# Altium footprint library Passives.PcbLib: 22 footprints (part 2 of 2)
Each footprint in its own frame and in the unit in brackets; x right, y up, seen from the top. Pads: shape width x height; smd on the part's side, far side on the other; paste and mask are expansions set on the pad; w line width, h text height; cw(c..) or ccw(c..) is an arc to the next point about the centre after c.
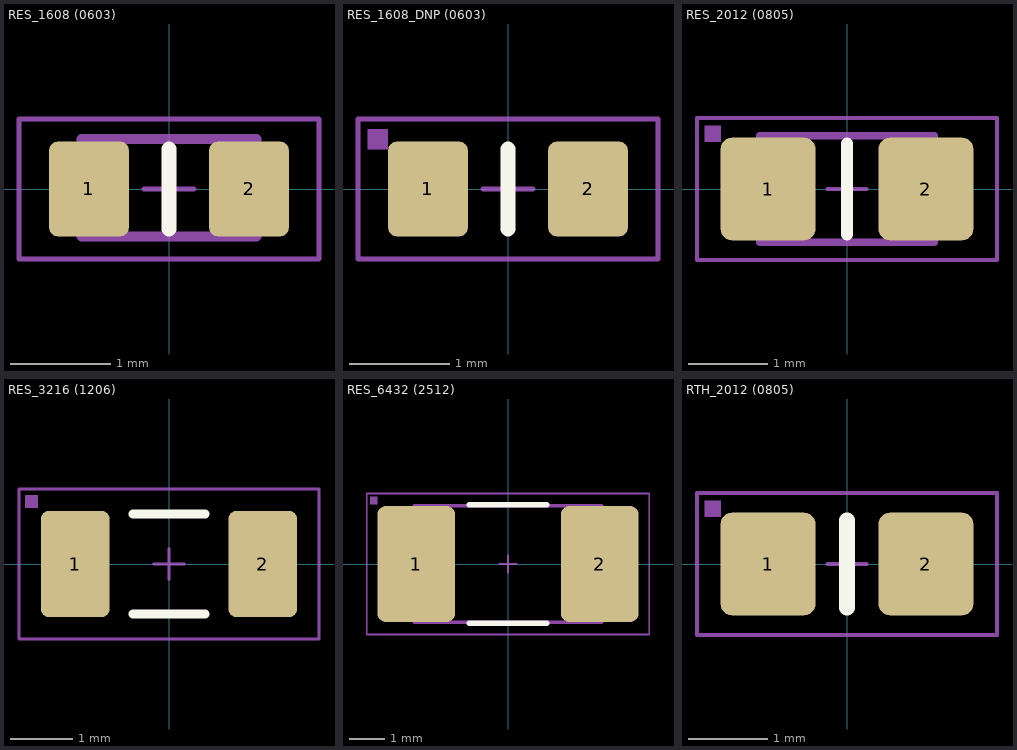
[diagram p1: the footprints below, top view; thin cyan lines are the x and y axes]

## RES_1608 (0603) [mm] "Metric (Imperial)"
height 0.55
pads (2):
  rrect23% 0.8x0.95 smd: 1(-0.8,0) 2(0.8,0)
Top Overlay:
  lines w0.15: 0,-0.4 0,0.4
15. Courtyard TOP:
  lines w0.05: -0.25,0 0.25,0 ; 0,-0.25 0,0.25 ; -1.5,-0.7 -1.5,0.7 1.5,0.7 1.5,-0.7 -1.5,-0.7
17. Comp.body:
  lines w0.1: -0.875,-0.475 -0.875,0.5 0.875,0.5 0.875,-0.475 -0.875,-0.475
18. Assembly TOP:
  lines w0.05: -1.5,-0.7 -1.5,0.7 1.5,0.7 1.5,-0.7 -1.5,-0.7
  text ".designator" at -1.3,-0.35 h0.7
3D body: height 0.55, standoff 0.01, extent -0.575,-0.475 0.575,0.475
3D body: height 0.55, standoff 0, extent -0.875,-0.475 -0.575,0.475
3D body: height 0.55, standoff 0, extent 0.575,-0.475 0.875,0.475

## RES_1608_DNP (0603) [mm] "Metric (Imperial)"
height 0.55
pads (2):
  rrect23% 0.8x0.95 smd: 1(-0.8,0) 2(0.8,0)
Top Overlay:
  lines w0.15: 0,-0.4 0,0.4
15. Courtyard TOP:
  lines w0.05: -0.25,0 0.25,0 ; 0,-0.25 0,0.25 ; -1.5,-0.7 1.5,-0.7 1.5,0.7 -1.5,0.7 -1.5,-0.7
18. Assembly TOP:
  region: -1.4,0.6 -1.2,0.6 -1.2,0.4 -1.4,0.4
  lines w0.05: -1.5,-0.7 1.5,-0.7 1.5,0.7 -1.5,0.7 -1.5,-0.7
  text ".designator" at -1.3,-0.35 h0.7

## RES_2012 (0805) [mm] "Chip Resistor Body 2.00x1.25mm, IPC High Density"
height 0.7
pads (2):
  rrect23% 1.2x1.3 smd: 1(-1,0) 2(1,0)
Top Overlay:
  lines w0.15: 0,-0.575 0,0.575
15. Courtyard TOP:
  lines w0.05: -0.25,0 0.25,0 ; 0,-0.25 0,0.25 ; -1.9,-0.9 1.9,-0.9 1.9,0.9 -1.9,0.9 -1.9,-0.9
17. Comp.body:
  lines w0.1: -1.1,-0.675 1.1,-0.675 1.1,0.675 -1.1,0.675 -1.1,-0.675
18. Assembly TOP:
  region: -1.8,0.8 -1.6,0.8 -1.6,0.6 -1.8,0.6
  lines w0.05: -1.9,-0.9 1.9,-0.9 1.9,0.9 -1.9,0.9 -1.9,-0.9
  text ".designator" at -1.825,-0.5 h1
3D body: height 0.61, standoff -0.01, extent -1.01,-0.635 1.01,0.635

## RES_3216 (1206) [mm] "Metric (Imperial)"
height 2.54
pads (2):
  rrect23% 1.1x1.7 smd: 1(-1.5,0) 2(1.5,0)
Top Overlay:
  lines w0.15: -0.575,-0.8 0.575,-0.8 ; -0.575,0.8 0.575,0.8
15. Courtyard TOP:
  lines w0.05: -0.25,0 0.25,0 ; 0,-0.25 0,0.25 ; -2.4,-1.2 2.4,-1.2 2.4,1.2 -2.4,1.2 -2.4,-1.2
18. Assembly TOP:
  region: -2.3,1.1 -2.1,1.1 -2.1,0.9 -2.3,0.9
  lines w0.05: -2.4,-1.2 2.4,-1.2 2.4,1.2 -2.4,1.2 -2.4,-1.2
  text ".designator" at -2.2,-0.6 h1.2
3D body: height 0.61, standoff -0.01, extent -1.61,-0.81 1.61,0.81

## RES_6432 (2512) [mm] "Chip Resistor, 2-Leads, Body 5,65x3,10mm, IPC Medium Density"
height 2.1
pads (2):
  rrect23% 2.2x3.3 smd: 1(-2.6,0) 2(2.6,0)
Top Overlay:
  lines w0.15: -1.1,-1.675 1.1,-1.675 ; -1.1,1.675 1.1,1.675
15. Courtyard TOP:
  lines w0.05: -0.25,0 0.25,0 ; 0,-0.25 0,0.25 ; -4,-2 -4,2 4,2 4,-2 -4,-2
17. Comp.body:
  lines w0.1: -2.65,-1.65 -2.65,1.65 2.65,1.65 2.65,-1.65 -2.65,-1.65
18. Assembly TOP:
  region: -3.9,1.9 -3.7,1.9 -3.7,1.7 -3.9,1.7
  lines w0.05: -4,-2 4,-2 4,2 -4,2 -4,-2
  text ".designator" at -2.725,-0.75 h1.5
3D body: height 2.1, standoff 0, extent -1.45,-1.65 1.45,1.65
3D body: height 2.1, standoff 0, extent -2.65,-1.65 -1.45,1.65
3D body: height 2.1, standoff 0, extent 1.45,-1.65 2.65,1.65

## RTH_2012 (0805) [mm] "Thermistor_Metric (Imperial)"
height 0.7
pads (2):
  rrect23% 1.2x1.3 smd: 1(-1,0) 2(1,0)
Top Overlay:
  lines w0.2: 0,-0.55 0,0.55
15. Courtyard TOP:
  lines w0.05: -0.25,0 0.25,0 ; 0,-0.25 0,0.25 ; -1.9,-0.9 1.9,-0.9 1.9,0.9 -1.9,0.9 -1.9,-0.9
18. Assembly TOP:
  region: -1.8,0.8 -1.6,0.8 -1.6,0.6 -1.8,0.6
  lines w0.05: -1.9,-0.9 -1.9,0.9 1.9,0.9 1.9,-0.9 -1.9,-0.9
  text ".designator" at -1.3,-0.35 h0.7
3D body: height 0.61, standoff -0.01, extent -1.01,-0.635 1.01,0.635